# EAGLE library part LTC2875 (library OTHERTEST)
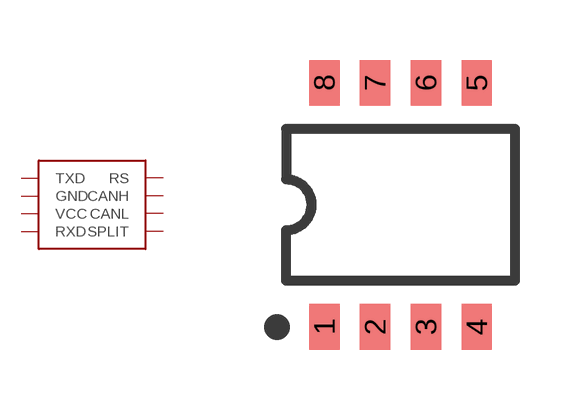
[diagram p1: symbol with the pads of LTC2875F; footprint LTC2875F]

Designator prefix U

## LTC2875 (MANUFACTURER: Linear Technologies; VALUE: IC TXRX CAN)  [LTC2875F]
1  TXD  nc
2  GND  nc
3  VCC  nc
4  RXD  nc
5  SPLIT  nc
6  CANL  nc
7  CANH  nc
8  RS  nc

## Footprint LTC2875F (pad centres in mm)
smd 0.762 x 1.143: 1 -1.905,-3.054; 2 -0.635,-3.054; 3 0.635,-3.054; 4 1.905,-3.054; 5 1.905,3.054; 6 0.635,3.054; 7 -0.635,3.054; 8 -1.905,3.054